# Altium schematic symbol library Schlib1.SchLib: 1 symbol
Pins are listed as number, name and electrical type; pins without a type are passive.

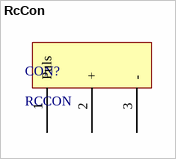
[diagram p0: symbol RcCon]

## RcCon
designator CON?, comment RCCON
pins: 1 Puls, 2 +, 3 -